# Altium integrated library TI_Logic_Little_Logic.IntLib: 1164 symbols (part 28 of 35)
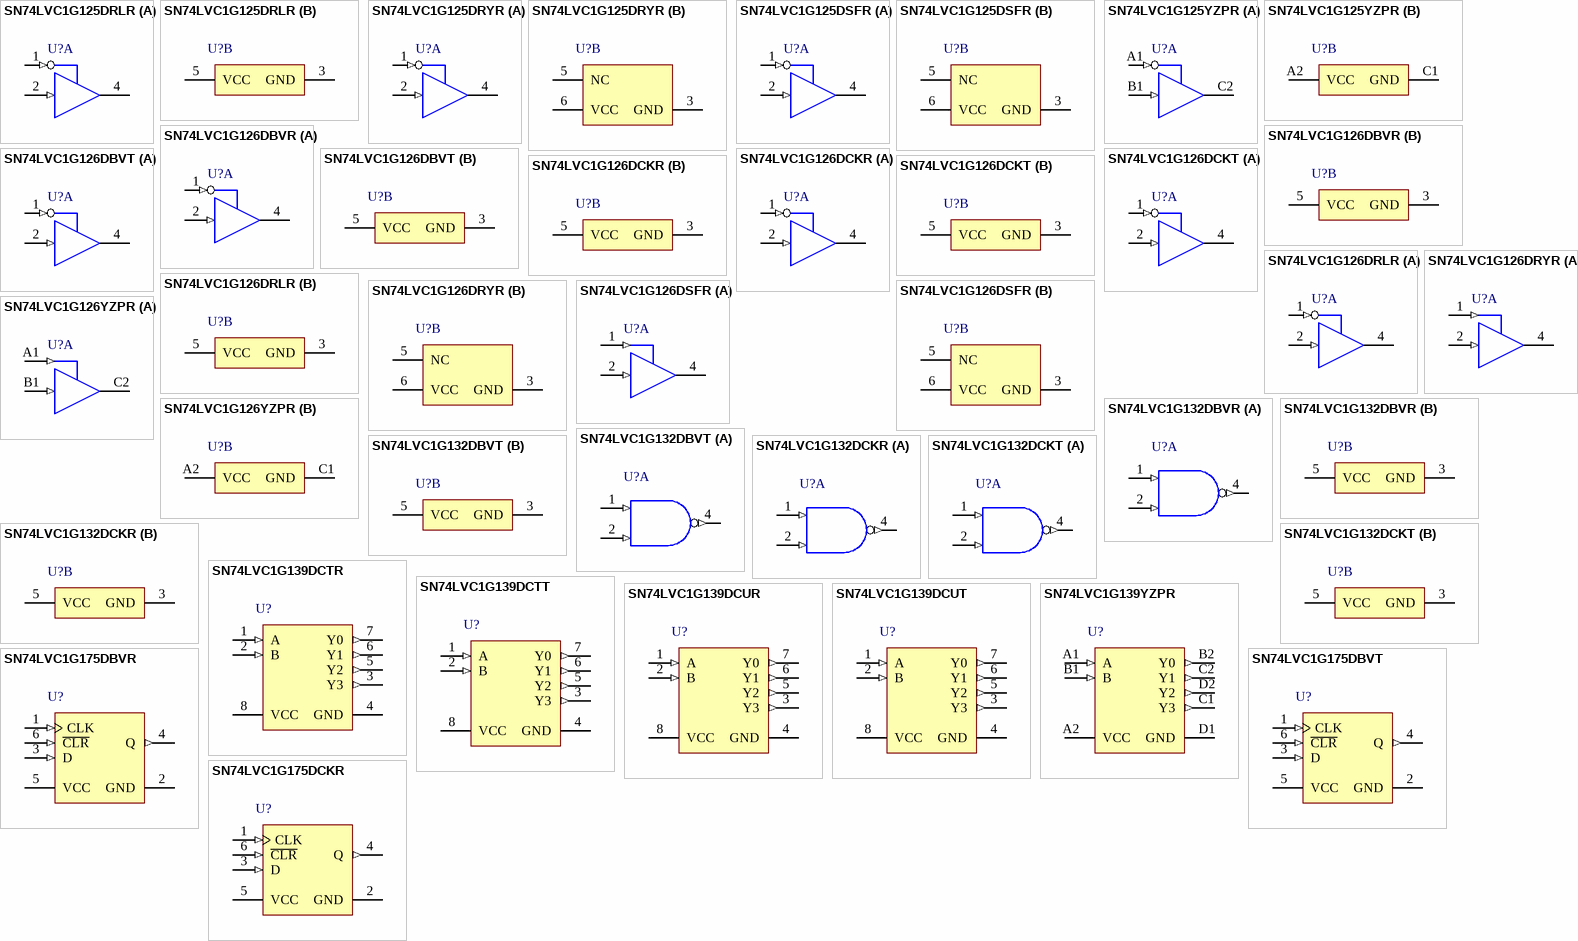
[diagram p87: symbols SN74LVC1G125DRLR to SN74LVC1G175DCKR]

## SN74LVC1G132DCKT
designator U?
Single 2-Input NAND Gate with Schmitt-Trigger Input, DCK0005A, SMALL T&R; Generic Part Number: SN74LVC1G132; Manufacturer: Texas Instruments; PartNumber: SN74LVC1G132DCKT; VCC(Min)(V): 1.65; VCC(Max)(V): 5.5; Output Type: CMOS; ICC @ Nom Voltage(Max)(mA): 0.01; Input Type: CMOS/TTL; Bits(#): 1; F @ Nom Voltage(Max)(Mhz): 150; Rating: Catalog; Technology Family: LVC; Voltage(Nom)(V): 1.8,2.5,3.3,5; Schmitt Trigger: Yes; Output Drive (IOL/IOH)(Max)(mA): 32/-32; tpd @ Nom Voltage(Max)(ns): 16,7.5,6,5; Logic: True; 3-State Output: No; DatasheetVersion: SCES546C; PackageReference: DCK0005A; Supplier 1: Mouser; Supplier Part Number 1: 595-SN74LVC1G132DCKT; Supplier 2: Digi-Key; Supplier Part Number 2: SN74LVC1G132DCKT-ND; Operating Temperature Range(C): -40 to 125; Gate Type: NAND; Sub-Family: NAND Gate; ComponentLink1Description: Manufacturer URL; ComponentLink1URL: http://www.ti.com/; ComponentLink2Description: Datasheet; ComponentLink2URL: http://www.ti.com/lit/ds/symlink/sn74lvc1g132.pdf
footprint DCK0005A_N (SOT23, 5-Leads, Body 2.15x1.4mm, Pitch 0.65mm, IPC Medium Density)
footprint DCK0005A_M (SOT23, 5-Leads, Body 2.15x1.4mm, Pitch 0.65mm, IPC Low Density)
footprint DCK0005A_L (SOT23, 5-Leads, Body 2.15x1.4mm, Pitch 0.65mm, IPC High Density)
part A pins: 1 A (in) "Input A", 2 B (in) "Input B", 4 Y (out) "Output Y"
part B pins: 3 GND (power) "Ground Pin", 5 VCC (power) "Power Pin"

## SN74LVC1G139DCTR
designator U?
2-Line-to-4-Line Decoder, DCT0008A, LARGE T&R; Generic Part Number: SN74LVC1G139; Manufacturer: Texas Instruments; PartNumber: SN74LVC1G139DCTR; VCC(Min)(V): 1.65; VCC(Max)(V): 5.5; Output Type: CMOS; ICC @ Nom Voltage(Max)(mA): 0.01; Input Type: CMOS/TTL; Bits(#): 1; F @ Nom Voltage(Max)(Mhz): 150; Rating: Catalog; Technology Family: LVC; Voltage(Nom)(V): 1.8,2.5,3.3,5; Schmitt Trigger: No; Output Drive (IOL/IOH)(Max)(mA): 32/-32; tpd @ Nom Voltage(Max)(ns): 16.5,7.5,4.9,3.6; Logic: True; Sub-Family: Decoder/Encoder/Multiplexer; DatasheetVersion: SCES602C; PackageReference: DCT0008A; Supplier 1: Mouser; Supplier Part Number 1: 595-SN74LVC1G139DCTR; Supplier 2: Digi-Key; Supplier Part Number 2: 296-18235-2-ND; Supplier 3: Digi-Key; Supplier Part Number 3: 296-18235-1-ND; Supplier 4: Digi-Key; Supplier Part Number 4: 296-18235-6-ND; Operating Temperature Range(C): -40 to 85; Specialty Logic Family: Decoder/Encoder/Multiplexer; 3-State Output: No; ComponentLink1Description: Manufacturer URL; ComponentLink1URL: http://www.ti.com/; ComponentLink2Description: Datasheet; ComponentLink2URL: http://www.ti.com/lit/ds/symlink/sn74lvc1g139.pdf
footprint DCT0008A_N (SOP, 8-Leads, Body 2.9x3.2mm, Pitch 0.65mm, IPC Medium Density)
footprint DCT0008A_M (SOP, 8-Leads, Body 2.9x3.2mm, Pitch 0.65mm, IPC Low Density)
footprint DCT0008A_L (SOP, 8-Leads, Body 2.9x3.2mm, Pitch 0.65mm, IPC High Density)
pins: 1 A (in), 2 B (in), 3 Y3 (out), 4 GND (power), 5 Y2 (out), 6 Y1 (out), 7 Y0 (out), 8 VCC (power)

## SN74LVC1G139DCTT
designator U?
2-Line-to-4-Line Decoder, DCT0008A, SMALL T&R; Generic Part Number: SN74LVC1G139; Manufacturer: Texas Instruments; PartNumber: SN74LVC1G139DCTT; VCC(Min)(V): 1.65; VCC(Max)(V): 5.5; Output Type: CMOS; ICC @ Nom Voltage(Max)(mA): 0.01; Input Type: CMOS/TTL; Bits(#): 1; F @ Nom Voltage(Max)(Mhz): 150; Rating: Catalog; Technology Family: LVC; Voltage(Nom)(V): 1.8,2.5,3.3,5; Schmitt Trigger: No; Output Drive (IOL/IOH)(Max)(mA): 32/-32; tpd @ Nom Voltage(Max)(ns): 16.5,7.5,4.9,3.6; Logic: True; Sub-Family: Decoder/Encoder/Multiplexer; DatasheetVersion: SCES602C; PackageReference: DCT0008A; Supplier 1: Mouser; Supplier Part Number 1: 595-SN74LVC1G139DCTT; Supplier 2: Digi-Key; Supplier Part Number 2: 296-32296-2-ND; Supplier 3: Digi-Key; Supplier Part Number 3: 296-32296-1-ND; Supplier 4: Digi-Key; Supplier Part Number 4: 296-32296-6-ND; Operating Temperature Range(C): -40 to 85; Specialty Logic Family: Decoder/Encoder/Multiplexer; 3-State Output: No; ComponentLink1Description: Manufacturer URL; ComponentLink1URL: http://www.ti.com/; ComponentLink2Description: Datasheet; ComponentLink2URL: http://www.ti.com/lit/ds/symlink/sn74lvc1g139.pdf
footprint DCT0008A_N (SOP, 8-Leads, Body 2.9x3.2mm, Pitch 0.65mm, IPC Medium Density)
footprint DCT0008A_M (SOP, 8-Leads, Body 2.9x3.2mm, Pitch 0.65mm, IPC Low Density)
footprint DCT0008A_L (SOP, 8-Leads, Body 2.9x3.2mm, Pitch 0.65mm, IPC High Density)
pins: 1 A (in), 2 B (in), 3 Y3 (out), 4 GND (power), 5 Y2 (out), 6 Y1 (out), 7 Y0 (out), 8 VCC (power)

## SN74LVC1G139DCUR
designator U?
2-Line-to-4-Line Decoder, DCU0008A, LARGE T&R; Generic Part Number: SN74LVC1G139; Manufacturer: Texas Instruments; PartNumber: SN74LVC1G139DCUR; VCC(Min)(V): 1.65; VCC(Max)(V): 5.5; Output Type: CMOS; ICC @ Nom Voltage(Max)(mA): 0.01; Input Type: CMOS/TTL; Bits(#): 1; F @ Nom Voltage(Max)(Mhz): 150; Rating: Catalog; Technology Family: LVC; Voltage(Nom)(V): 1.8,2.5,3.3,5; Schmitt Trigger: No; Output Drive (IOL/IOH)(Max)(mA): 32/-32; tpd @ Nom Voltage(Max)(ns): 16.5,7.5,4.9,3.6; Logic: True; Sub-Family: Decoder/Encoder/Multiplexer; DatasheetVersion: SCES602C; PackageReference: DCU0008A; Supplier 1: Mouser; Supplier Part Number 1: 595-SN74LVC1G139DCUR; Supplier 2: Digi-Key; Supplier Part Number 2: 296-18203-2-ND; Supplier 3: Digi-Key; Supplier Part Number 3: 296-18203-1-ND; Supplier 4: Digi-Key; Supplier Part Number 4: 296-18203-6-ND; Operating Temperature Range(C): -40 to 85; Specialty Logic Family: Decoder/Encoder/Multiplexer; 3-State Output: No; ComponentLink1Description: Manufacturer URL; ComponentLink1URL: http://www.ti.com/; ComponentLink2Description: Datasheet; ComponentLink2URL: http://www.ti.com/lit/ds/symlink/sn74lvc1g139.pdf
footprint DCU0008A_N (SOP, 8-Leads, Body 2.4x2.1mm, Pitch 0.5mm, IPC Medium Density)
footprint DCU0008A_M (SOP, 8-Leads, Body 2.4x2.1mm, Pitch 0.5mm, IPC Low Density)
footprint DCU0008A_L (SOP, 8-Leads, Body 2.4x2.1mm, Pitch 0.5mm, IPC High Density)
pins: 1 A (in), 2 B (in), 3 Y3 (out), 4 GND (power), 5 Y2 (out), 6 Y1 (out), 7 Y0 (out), 8 VCC (power)

## SN74LVC1G139DCUT
designator U?
2-Line-to-4-Line Decoder, DCU0008A, SMALL T&R; Generic Part Number: SN74LVC1G139; Manufacturer: Texas Instruments; PartNumber: SN74LVC1G139DCUT; VCC(Min)(V): 1.65; VCC(Max)(V): 5.5; Output Type: CMOS; ICC @ Nom Voltage(Max)(mA): 0.01; Input Type: CMOS/TTL; Bits(#): 1; F @ Nom Voltage(Max)(Mhz): 150; Rating: Catalog; Technology Family: LVC; Voltage(Nom)(V): 1.8,2.5,3.3,5; Schmitt Trigger: No; Output Drive (IOL/IOH)(Max)(mA): 32/-32; tpd @ Nom Voltage(Max)(ns): 16.5,7.5,4.9,3.6; Logic: True; Sub-Family: Decoder/Encoder/Multiplexer; DatasheetVersion: SCES602C; PackageReference: DCU0008A; Supplier 1: Mouser; Supplier Part Number 1: 595-SN74LVC1G139DCUT; Supplier 2: Digi-Key; Supplier Part Number 2: 296-32297-2-ND; Supplier 3: Digi-Key; Supplier Part Number 3: 296-32297-1-ND; Supplier 4: Digi-Key; Supplier Part Number 4: 296-32297-6-ND; Operating Temperature Range(C): -40 to 85; Specialty Logic Family: Decoder/Encoder/Multiplexer; 3-State Output: No; ComponentLink1Description: Manufacturer URL; ComponentLink1URL: http://www.ti.com/; ComponentLink2Description: Datasheet; ComponentLink2URL: http://www.ti.com/lit/ds/symlink/sn74lvc1g139.pdf
footprint DCU0008A_N (SOP, 8-Leads, Body 2.4x2.1mm, Pitch 0.5mm, IPC Medium Density)
footprint DCU0008A_M (SOP, 8-Leads, Body 2.4x2.1mm, Pitch 0.5mm, IPC Low Density)
footprint DCU0008A_L (SOP, 8-Leads, Body 2.4x2.1mm, Pitch 0.5mm, IPC High Density)
pins: 1 A (in), 2 B (in), 3 Y3 (out), 4 GND (power), 5 Y2 (out), 6 Y1 (out), 7 Y0 (out), 8 VCC (power)

## SN74LVC1G139YZPR
designator U?
2-Line-to-4-Line Decoder, YZP0008ADAD, LARGE T&R; Generic Part Number: SN74LVC1G139; Manufacturer: Texas Instruments; PartNumber: SN74LVC1G139YZPR; VCC(Min)(V): 1.65; VCC(Max)(V): 5.5; Output Type: CMOS; ICC @ Nom Voltage(Max)(mA): 0.01; Input Type: CMOS/TTL; Bits(#): 1; F @ Nom Voltage(Max)(Mhz): 150; Rating: Catalog; Technology Family: LVC; Voltage(Nom)(V): 1.8,2.5,3.3,5; Schmitt Trigger: No; Output Drive (IOL/IOH)(Max)(mA): 32/-32; tpd @ Nom Voltage(Max)(ns): 16.5,7.5,4.9,3.6; Logic: True; Sub-Family: Decoder/Encoder/Multiplexer; DatasheetVersion: SCES602C; PackageReference: YZP0008ADAD; Supplier 1: Mouser; Supplier Part Number 1: 595-SN74LVC1G139YZPR; Supplier 2: Digi-Key; Supplier Part Number 2: 296-21059-2-ND; Supplier 3: Digi-Key; Supplier Part Number 3: 296-21059-1-ND; Supplier 4: Digi-Key; Supplier Part Number 4: 296-21059-6-ND; Operating Temperature Range(C): -40 to 85; Specialty Logic Family: Decoder/Encoder/Multiplexer; 3-State Output: No; ComponentLink1Description: Manufacturer URL; ComponentLink1URL: http://www.ti.com/; ComponentLink2Description: Datasheet; ComponentLink2URL: http://www.ti.com/lit/ds/symlink/sn74lvc1g139.pdf
footprint YZP0008ADAD (BGA, 8-Balls, Body 1.89x0.89mm, Pitch 0.5mm)
pins: A1 A (in), A2 VCC (power), B1 B (in), B2 Y0 (out), C1 Y3 (out), C2 Y1 (out), D1 GND (power), D2 Y2 (out)

## SN74LVC1G175DBVR
designator U?
Single D-Type Flip-Flop with Asynchronous Clear, DBV0006A, LARGE T&R; Generic Part Number: SN74LVC1G175; Manufacturer: Texas Instruments; PartNumber: SN74LVC1G175DBVR; VCC(Min)(V): 1.65; VCC(Max)(V): 5.5; Output Type: CMOS; ICC @ Nom Voltage(Max)(mA): 0.01; Input Type: CMOS/TTL; Bits(#): 1; F @ Nom Voltage(Max)(Mhz): 150; Rating: Catalog; Technology Family: LVC; Voltage(Nom)(V): 1.8,2.5,3.3,5; Schmitt Trigger: No; Output Drive (IOL/IOH)(Max)(mA): 32/-32; tpd @ Nom Voltage(Max)(ns): 13.4,7.1,5.7,4; Logic: True; DatasheetVersion: SCES560F; PackageReference: DBV0006A; Supplier 1: Mouser; Supplier Part Number 1: 595-SN74LVC1G175DBVR; Supplier 2: Digi-Key; Supplier Part Number 2: 296-17617-2-ND; Supplier 3: Digi-Key; Supplier Part Number 3: 296-17617-1-ND; Supplier 4: Digi-Key; Supplier Part Number 4: 296-17617-6-ND; Operating Temperature Range(C): -40 to 125,-40 to 85; 3-State Output: No; Sub-Family: D-Type Flip-Flop; ComponentLink1Description: Manufacturer URL; ComponentLink1URL: http://www.ti.com/; ComponentLink2Description: Datasheet; ComponentLink2URL: http://www.ti.com/lit/ds/symlink/sn74lvc1g175.pdf
footprint DBV0006A_N (SOT23, 6-Leads, Body 3.05x1.75mm, Pitch 0.95mm, IPC Medium Density)
footprint DBV0006A_M (SOT23, 6-Leads, Body 3.05x1.75mm, Pitch 0.95mm, IPC Low Density)
footprint DBV0006A_L (SOT23, 6-Leads, Body 3.05x1.75mm, Pitch 0.95mm, IPC High Density)
pins: 1 CLK (in), 2 GND (power), 3 D (in), 4 Q (out), 5 VCC (power), 6 ~{CLR} (in)

## SN74LVC1G175DBVT
designator U?
Single D-Type Flip-Flop with Asynchronous Clear, DBV0006A, SMALL T&R; Generic Part Number: SN74LVC1G175; Manufacturer: Texas Instruments; PartNumber: SN74LVC1G175DBVT; VCC(Min)(V): 1.65; VCC(Max)(V): 5.5; Output Type: CMOS; ICC @ Nom Voltage(Max)(mA): 0.01; Input Type: CMOS/TTL; Bits(#): 1; F @ Nom Voltage(Max)(Mhz): 150; Rating: Catalog; Technology Family: LVC; Voltage(Nom)(V): 1.8,2.5,3.3,5; Schmitt Trigger: No; Output Drive (IOL/IOH)(Max)(mA): 32/-32; tpd @ Nom Voltage(Max)(ns): 13.4,7.1,5.7,4; Logic: True; DatasheetVersion: SCES560F; PackageReference: DBV0006A; Supplier 1: Mouser; Supplier Part Number 1: 595-SN74LVC1G175DBVT; Supplier 2: Digi-Key; Supplier Part Number 2: 296-32298-2-ND; Supplier 3: Digi-Key; Supplier Part Number 3: 296-32298-1-ND; Supplier 4: Digi-Key; Supplier Part Number 4: 296-32298-6-ND; Operating Temperature Range(C): -40 to 125,-40 to 85; 3-State Output: No; Sub-Family: D-Type Flip-Flop; ComponentLink1Description: Manufacturer URL; ComponentLink1URL: http://www.ti.com/; ComponentLink2Description: Datasheet; ComponentLink2URL: http://www.ti.com/lit/ds/symlink/sn74lvc1g175.pdf
footprint DBV0006A_N (SOT23, 6-Leads, Body 3.05x1.75mm, Pitch 0.95mm, IPC Medium Density)
footprint DBV0006A_M (SOT23, 6-Leads, Body 3.05x1.75mm, Pitch 0.95mm, IPC Low Density)
footprint DBV0006A_L (SOT23, 6-Leads, Body 3.05x1.75mm, Pitch 0.95mm, IPC High Density)
pins: 1 CLK (in), 2 GND (power), 3 D (in), 4 Q (out), 5 VCC (power), 6 ~{CLR} (in)

## SN74LVC1G175DCKR
designator U?
Single D-Type Flip-Flop with Asynchronous Clear, DCK0006A, LARGE T&R; Generic Part Number: SN74LVC1G175; Manufacturer: Texas Instruments; PartNumber: SN74LVC1G175DCKR; VCC(Min)(V): 1.65; VCC(Max)(V): 5.5; Output Type: CMOS; ICC @ Nom Voltage(Max)(mA): 0.01; Input Type: CMOS/TTL; Bits(#): 1; F @ Nom Voltage(Max)(Mhz): 150; Rating: Catalog; Technology Family: LVC; Voltage(Nom)(V): 1.8,2.5,3.3,5; Schmitt Trigger: No; Output Drive (IOL/IOH)(Max)(mA): 32/-32; tpd @ Nom Voltage(Max)(ns): 13.4,7.1,5.7,4; Logic: True; DatasheetVersion: SCES560F; PackageReference: DCK0006A; Supplier 1: Mouser; Supplier Part Number 1: 595-SN74LVC1G175DCKR; Supplier 2: Digi-Key; Supplier Part Number 2: 296-16998-2-ND; Supplier 3: Digi-Key; Supplier Part Number 3: 296-16998-1-ND; Supplier 4: Digi-Key; Supplier Part Number 4: 296-16998-6-ND; Operating Temperature Range(C): -40 to 125,-40 to 85; 3-State Output: No; Sub-Family: D-Type Flip-Flop; ComponentLink1Description: Manufacturer URL; ComponentLink1URL: http://www.ti.com/; ComponentLink2Description: Datasheet; ComponentLink2URL: http://www.ti.com/lit/ds/symlink/sn74lvc1g175.pdf
footprint DCK0006A_N (SOT23, 6-Leads, Body 2.15x1.4mm, Pitch 0.65mm, IPC Medium Density)
footprint DCK0006A_M (SOT23, 6-Leads, Body 2.15x1.4mm, Pitch 0.65mm, IPC Low Density)
footprint DCK0006A_L (SOT23, 6-Leads, Body 2.15x1.4mm, Pitch 0.65mm, IPC High Density)
pins: 1 CLK (in), 2 GND (power), 3 D (in), 4 Q (out), 5 VCC (power), 6 ~{CLR} (in)

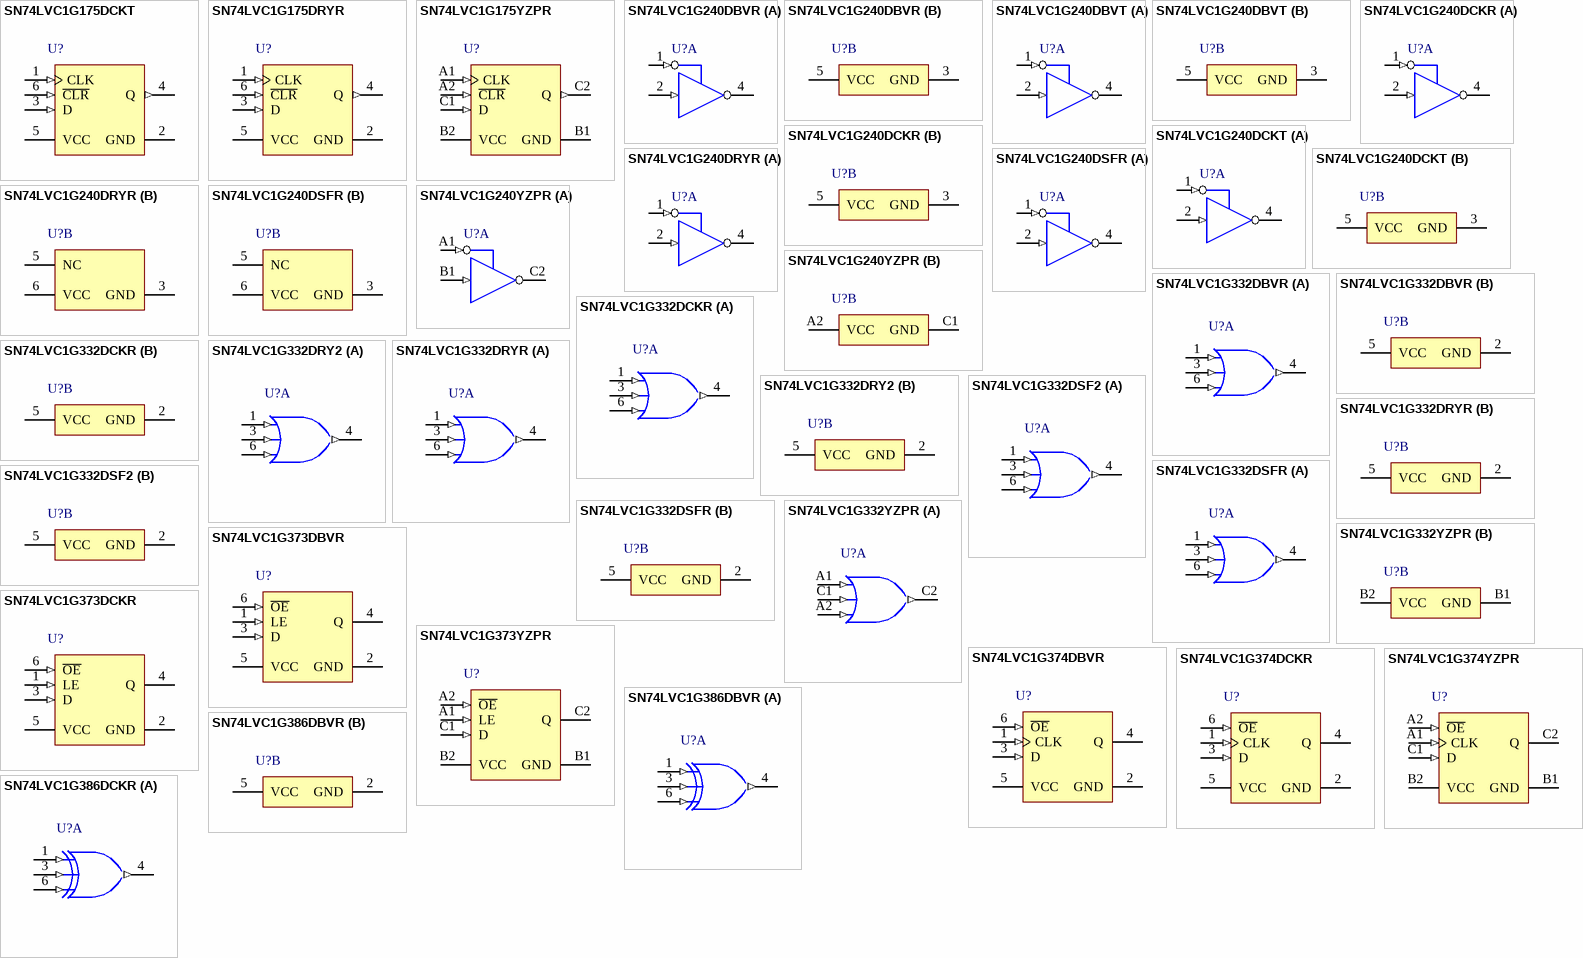
[diagram p45: symbols SN74LVC1G175DCKT to SN74LVC1G386DCKR]

## SN74LVC1G175DCKT
designator U?
Single D-Type Flip-Flop with Asynchronous Clear, DCK0006A, SMALL T&R; Generic Part Number: SN74LVC1G175; Manufacturer: Texas Instruments; PartNumber: SN74LVC1G175DCKT; VCC(Min)(V): 1.65; VCC(Max)(V): 5.5; Output Type: CMOS; ICC @ Nom Voltage(Max)(mA): 0.01; Input Type: CMOS/TTL; Bits(#): 1; F @ Nom Voltage(Max)(Mhz): 150; Rating: Catalog; Technology Family: LVC; Voltage(Nom)(V): 1.8,2.5,3.3,5; Schmitt Trigger: No; Output Drive (IOL/IOH)(Max)(mA): 32/-32; tpd @ Nom Voltage(Max)(ns): 13.4,7.1,5.7,4; Logic: True; DatasheetVersion: SCES560F; PackageReference: DCK0006A; Supplier 1: Mouser; Supplier Part Number 1: 595-SN74LVC1G175DCKT; Supplier 2: Digi-Key; Supplier Part Number 2: 296-32299-2-ND; Supplier 3: Digi-Key; Supplier Part Number 3: 296-32299-1-ND; Supplier 4: Digi-Key; Supplier Part Number 4: 296-32299-6-ND; Operating Temperature Range(C): -40 to 125,-40 to 85; 3-State Output: No; Sub-Family: D-Type Flip-Flop; ComponentLink1Description: Manufacturer URL; ComponentLink1URL: http://www.ti.com/; ComponentLink2Description: Datasheet; ComponentLink2URL: http://www.ti.com/lit/ds/symlink/sn74lvc1g175.pdf
footprint DCK0006A_N (SOT23, 6-Leads, Body 2.15x1.4mm, Pitch 0.65mm, IPC Medium Density)
footprint DCK0006A_M (SOT23, 6-Leads, Body 2.15x1.4mm, Pitch 0.65mm, IPC Low Density)
footprint DCK0006A_L (SOT23, 6-Leads, Body 2.15x1.4mm, Pitch 0.65mm, IPC High Density)
pins: 1 CLK (in), 2 GND (power), 3 D (in), 4 Q (out), 5 VCC (power), 6 ~{CLR} (in)

## SN74LVC1G175DRYR
designator U?
Single D-Type Flip-Flop with Asynchronous Clear, DRY0006A, LARGE T&R; Generic Part Number: SN74LVC1G175; Manufacturer: Texas Instruments; PartNumber: SN74LVC1G175DRYR; VCC(Min)(V): 1.65; VCC(Max)(V): 5.5; Output Type: CMOS; ICC @ Nom Voltage(Max)(mA): 0.01; Input Type: CMOS/TTL; Bits(#): 1; F @ Nom Voltage(Max)(Mhz): 150; Rating: Catalog; Technology Family: LVC; Voltage(Nom)(V): 1.8,2.5,3.3,5; Schmitt Trigger: No; Output Drive (IOL/IOH)(Max)(mA): 32/-32; tpd @ Nom Voltage(Max)(ns): 13.4,7.1,5.7,4; Logic: True; DatasheetVersion: SCES560F; PackageReference: DRY0006A; Supplier 1: Mouser; Supplier Part Number 1: 595-SN74LVC1G175DRYR; Supplier 2: Digi-Key; Supplier Part Number 2: 296-24753-2-ND; Supplier 3: Digi-Key; Supplier Part Number 3: 296-24753-1-ND; Supplier 4: Digi-Key; Supplier Part Number 4: 296-24753-6-ND; Operating Temperature Range(C): -40 to 125,-40 to 85; 3-State Output: No; Sub-Family: D-Type Flip-Flop; ComponentLink1Description: Manufacturer URL; ComponentLink1URL: http://www.ti.com/; ComponentLink2Description: Datasheet; ComponentLink2URL: http://www.ti.com/lit/ds/symlink/sn74lvc1g175.pdf
footprint DRY0006A_V (SON, 6-Leads, Body 1.45x1mm, Pitch 0.5mm)
pins: 1 CLK (in), 2 GND (power), 3 D (in), 4 Q (out), 5 VCC (power), 6 ~{CLR} (in)

## SN74LVC1G175YZPR
designator U?
Single D-Type Flip-Flop with Asynchronous Clear, YZP0006ADAD, LARGE T&R; Generic Part Number: SN74LVC1G175; Manufacturer: Texas Instruments; PartNumber: SN74LVC1G175YZPR; VCC(Min)(V): 1.65; VCC(Max)(V): 5.5; Output Type: CMOS; ICC @ Nom Voltage(Max)(mA): 0.01; Input Type: CMOS/TTL; Bits(#): 1; F @ Nom Voltage(Max)(Mhz): 150; Rating: Catalog; Technology Family: LVC; Voltage(Nom)(V): 1.8,2.5,3.3,5; Schmitt Trigger: No; Output Drive (IOL/IOH)(Max)(mA): 32/-32; tpd @ Nom Voltage(Max)(ns): 13.4,7.1,5.7,4; Logic: True; DatasheetVersion: SCES560F; PackageReference: YZP0006ADAD; Supplier 1: Mouser; Supplier Part Number 1: 595-SN74LVC1G175YZPR; Supplier 2: Digi-Key; Supplier Part Number 2: 296-17373-2-ND; Supplier 3: Digi-Key; Supplier Part Number 3: 296-17373-1-ND; Supplier 4: Digi-Key; Supplier Part Number 4: 296-17373-6-ND; Operating Temperature Range(C): -40 to 125,-40 to 85; 3-State Output: No; Sub-Family: D-Type Flip-Flop; ComponentLink1Description: Manufacturer URL; ComponentLink1URL: http://www.ti.com/; ComponentLink2Description: Datasheet; ComponentLink2URL: http://www.ti.com/lit/ds/symlink/sn74lvc1g175.pdf
footprint YZP0006ADAD (BGA, 6-Balls, Body 1.39x0.89mm, Pitch 0.5mm)
pins: A1 CLK (in), A2 ~{CLR} (in), B1 GND (power), B2 VCC (power), C1 D (in), C2 Q (out)

## SN74LVC1G240DBVR
designator U?
Single Inverting Buffer/Driver With 3-State Outputs, DBV0005A, LARGE T&R; Generic Part Number: SN74LVC1G240; Manufacturer: Texas Instruments; PartNumber: SN74LVC1G240DBVR; VCC(Min)(V): 1.65; VCC(Max)(V): 5.5; Output Type: CMOS; ICC @ Nom Voltage(Max)(mA): 0.01; Input Type: CMOS/TTL; Bits(#): 1; F @ Nom Voltage(Max)(Mhz): 150; Rating: Catalog; Technology Family: LVC; Voltage(Nom)(V): 1.8,2.5,3.3,5; Schmitt Trigger: No; Output Drive (IOL/IOH)(Max)(mA): 32/-32; tpd @ Nom Voltage(Max)(ns): 6.9,4.6,3.7,3.4; 3-State Output: Yes; DatasheetVersion: SCES305L; PackageReference: DBV0005A; Supplier 1: Mouser; Supplier Part Number 1: 595-SN74LVC1G240DBVR; Supplier 2: Digi-Key; Supplier Part Number 2: 296-11609-2-ND; Supplier 3: Digi-Key; Supplier Part Number 3: 296-11609-1-ND; Supplier 4: Digi-Key; Supplier Part Number 4: 296-11609-6-ND; Operating Temperature Range(C): -40 to 125,-40 to 85; Logic: Inverting; Sub-Family: Inverting Buffer/Driver; ComponentLink1Description: Manufacturer URL; ComponentLink1URL: http://www.ti.com/; ComponentLink2Description: Datasheet; ComponentLink2URL: http://www.ti.com/lit/ds/symlink/sn74lvc1g240.pdf
footprint DBV0005A_N (SOT23, 5-Leads, Body 3.05x1.75mm, Pitch 0.95mm, IPC Medium Density)
footprint DBV0005A_M (SOT23, 5-Leads, Body 3.05x1.75mm, Pitch 0.95mm, IPC Low Density)
footprint DBV0005A_L (SOT23, 5-Leads, Body 3.05x1.75mm, Pitch 0.95mm, IPC High Density)
part A pins: 1 ~{OE} (in), 2 A (in), 4 Y (hiz)
part B pins: 3 GND (power), 5 VCC (power)

## SN74LVC1G240DBVT
designator U?
Single Inverting Buffer/Driver With 3-State Outputs, DBV0005A, SMALL T&R; Generic Part Number: SN74LVC1G240; Manufacturer: Texas Instruments; PartNumber: SN74LVC1G240DBVT; VCC(Min)(V): 1.65; VCC(Max)(V): 5.5; Output Type: CMOS; ICC @ Nom Voltage(Max)(mA): 0.01; Input Type: CMOS/TTL; Bits(#): 1; F @ Nom Voltage(Max)(Mhz): 150; Rating: Catalog; Technology Family: LVC; Voltage(Nom)(V): 1.8,2.5,3.3,5; Schmitt Trigger: No; Output Drive (IOL/IOH)(Max)(mA): 32/-32; tpd @ Nom Voltage(Max)(ns): 6.9,4.6,3.7,3.4; 3-State Output: Yes; DatasheetVersion: SCES305L; PackageReference: DBV0005A; Supplier 1: Mouser; Supplier Part Number 1: 595-SN74LVC1G240DBVT; Supplier 2: Digi-Key; Supplier Part Number 2: 296-32301-2-ND; Supplier 3: Digi-Key; Supplier Part Number 3: 296-32301-1-ND; Supplier 4: Digi-Key; Supplier Part Number 4: 296-32301-6-ND; Operating Temperature Range(C): -40 to 125,-40 to 85; Logic: Inverting; Sub-Family: Inverting Buffer/Driver; ComponentLink1Description: Manufacturer URL; ComponentLink1URL: http://www.ti.com/; ComponentLink2Description: Datasheet; ComponentLink2URL: http://www.ti.com/lit/ds/symlink/sn74lvc1g240.pdf
footprint DBV0005A_N (SOT23, 5-Leads, Body 3.05x1.75mm, Pitch 0.95mm, IPC Medium Density)
footprint DBV0005A_M (SOT23, 5-Leads, Body 3.05x1.75mm, Pitch 0.95mm, IPC Low Density)
footprint DBV0005A_L (SOT23, 5-Leads, Body 3.05x1.75mm, Pitch 0.95mm, IPC High Density)
part A pins: 1 ~{OE} (in), 2 A (in), 4 Y (hiz)
part B pins: 3 GND (power), 5 VCC (power)

## SN74LVC1G240DCKR
designator U?
Single Inverting Buffer/Driver With 3-State Outputs, DCK0005A, LARGE T&R; Generic Part Number: SN74LVC1G240; Manufacturer: Texas Instruments; PartNumber: SN74LVC1G240DCKR; VCC(Min)(V): 1.65; VCC(Max)(V): 5.5; Output Type: CMOS; ICC @ Nom Voltage(Max)(mA): 0.01; Input Type: CMOS/TTL; Bits(#): 1; F @ Nom Voltage(Max)(Mhz): 150; Rating: Catalog; Technology Family: LVC; Voltage(Nom)(V): 1.8,2.5,3.3,5; Schmitt Trigger: No; Output Drive (IOL/IOH)(Max)(mA): 32/-32; tpd @ Nom Voltage(Max)(ns): 6.9,4.6,3.7,3.4; 3-State Output: Yes; DatasheetVersion: SCES305L; PackageReference: DCK0005A; Supplier 1: Mouser; Supplier Part Number 1: 595-SN74LVC1G240DCKR; Supplier 2: Digi-Key; Supplier Part Number 2: 296-11610-2-ND; Supplier 3: Digi-Key; Supplier Part Number 3: 296-11610-1-ND; Supplier 4: Digi-Key; Supplier Part Number 4: 296-11610-6-ND; Operating Temperature Range(C): -40 to 125,-40 to 85; Logic: Inverting; Sub-Family: Inverting Buffer/Driver; ComponentLink1Description: Manufacturer URL; ComponentLink1URL: http://www.ti.com/; ComponentLink2Description: Datasheet; ComponentLink2URL: http://www.ti.com/lit/ds/symlink/sn74lvc1g240.pdf
footprint DCK0005A_N (SOT23, 5-Leads, Body 2.15x1.4mm, Pitch 0.65mm, IPC Medium Density)
footprint DCK0005A_M (SOT23, 5-Leads, Body 2.15x1.4mm, Pitch 0.65mm, IPC Low Density)
footprint DCK0005A_L (SOT23, 5-Leads, Body 2.15x1.4mm, Pitch 0.65mm, IPC High Density)
part A pins: 1 ~{OE} (in), 2 A (in), 4 Y (hiz)
part B pins: 3 GND (power), 5 VCC (power)

## SN74LVC1G240DCKT
designator U?
Single Inverting Buffer/Driver With 3-State Outputs, DCK0005A, SMALL T&R; Generic Part Number: SN74LVC1G240; Manufacturer: Texas Instruments; PartNumber: SN74LVC1G240DCKT; VCC(Min)(V): 1.65; VCC(Max)(V): 5.5; Output Type: CMOS; ICC @ Nom Voltage(Max)(mA): 0.01; Input Type: CMOS/TTL; Bits(#): 1; F @ Nom Voltage(Max)(Mhz): 150; Rating: Catalog; Technology Family: LVC; Voltage(Nom)(V): 1.8,2.5,3.3,5; Schmitt Trigger: No; Output Drive (IOL/IOH)(Max)(mA): 32/-32; tpd @ Nom Voltage(Max)(ns): 6.9,4.6,3.7,3.4; 3-State Output: Yes; DatasheetVersion: SCES305L; PackageReference: DCK0005A; Supplier 1: Mouser; Supplier Part Number 1: 595-SN74LVC1G240DCKT; Supplier 2: Digi-Key; Supplier Part Number 2: 296-32302-2-ND; Supplier 3: Digi-Key; Supplier Part Number 3: 296-32302-1-ND; Supplier 4: Digi-Key; Supplier Part Number 4: 296-32302-6-ND; Operating Temperature Range(C): -40 to 125,-40 to 85; Logic: Inverting; Sub-Family: Inverting Buffer/Driver; ComponentLink1Description: Manufacturer URL; ComponentLink1URL: http://www.ti.com/; ComponentLink2Description: Datasheet; ComponentLink2URL: http://www.ti.com/lit/ds/symlink/sn74lvc1g240.pdf
footprint DCK0005A_N (SOT23, 5-Leads, Body 2.15x1.4mm, Pitch 0.65mm, IPC Medium Density)
footprint DCK0005A_M (SOT23, 5-Leads, Body 2.15x1.4mm, Pitch 0.65mm, IPC Low Density)
footprint DCK0005A_L (SOT23, 5-Leads, Body 2.15x1.4mm, Pitch 0.65mm, IPC High Density)
part A pins: 1 ~{OE} (in), 2 A (in), 4 Y (hiz)
part B pins: 3 GND (power), 5 VCC (power)

## SN74LVC1G240DRYR
designator U?
Single Inverting Buffer/Driver With 3-State Outputs, DRY0006A, LARGE T&R; Generic Part Number: SN74LVC1G240; Manufacturer: Texas Instruments; PartNumber: SN74LVC1G240DRYR; VCC(Min)(V): 1.65; VCC(Max)(V): 5.5; Output Type: CMOS; ICC @ Nom Voltage(Max)(mA): 0.01; Input Type: CMOS/TTL; Bits(#): 1; F @ Nom Voltage(Max)(Mhz): 150; Rating: Catalog; Technology Family: LVC; Voltage(Nom)(V): 1.8,2.5,3.3,5; Schmitt Trigger: No; Output Drive (IOL/IOH)(Max)(mA): 32/-32; tpd @ Nom Voltage(Max)(ns): 6.9,4.6,3.7,3.4; 3-State Output: Yes; DatasheetVersion: SCES305L; PackageReference: DRY0006A; Supplier 1: Mouser; Supplier Part Number 1: 595-SN74LVC1G240DRYR; Supplier 2: Digi-Key; Supplier Part Number 2: SN74LVC1G240DRYR-ND; Operating Temperature Range(C): -40 to 125,-40 to 85; Logic: Inverting; Sub-Family: Inverting Buffer/Driver; ComponentLink1Description: Manufacturer URL; ComponentLink1URL: http://www.ti.com/; ComponentLink2Description: Datasheet; ComponentLink2URL: http://www.ti.com/lit/ds/symlink/sn74lvc1g240.pdf
footprint DRY0006A_V (SON, 6-Leads, Body 1.45x1mm, Pitch 0.5mm)
part A pins: 1 ~{OE} (in), 2 A (in), 4 Y (hiz)
part B pins: 3 GND (power), 5 NC, 6 VCC (power)

## SN74LVC1G240DSFR
designator U?
Single Inverting Buffer/Driver With 3-State Outputs, DSF0006A, LARGE T&R; Generic Part Number: SN74LVC1G240; Manufacturer: Texas Instruments; PartNumber: SN74LVC1G240DSFR; VCC(Min)(V): 1.65; VCC(Max)(V): 5.5; Output Type: CMOS; ICC @ Nom Voltage(Max)(mA): 0.01; Input Type: CMOS/TTL; Bits(#): 1; F @ Nom Voltage(Max)(Mhz): 150; Rating: Catalog; Technology Family: LVC; Voltage(Nom)(V): 1.8,2.5,3.3,5; Schmitt Trigger: No; Output Drive (IOL/IOH)(Max)(mA): 32/-32; tpd @ Nom Voltage(Max)(ns): 6.9,4.6,3.7,3.4; 3-State Output: Yes; DatasheetVersion: SCES305L; PackageReference: DSF0006A; Supplier 1: Mouser; Supplier Part Number 1: 595-SN74LVC1G240DSFR; Supplier 2: Digi-Key; Supplier Part Number 2: 296-36725-2-ND; Supplier 3: Digi-Key; Supplier Part Number 3: 296-36725-1-ND; Supplier 4: Digi-Key; Supplier Part Number 4: 296-36725-6-ND; Operating Temperature Range(C): -40 to 125,-40 to 85; Logic: Inverting; Sub-Family: Inverting Buffer/Driver; ComponentLink1Description: Manufacturer URL; ComponentLink1URL: http://www.ti.com/; ComponentLink2Description: Datasheet; ComponentLink2URL: http://www.ti.com/lit/ds/symlink/sn74lvc1g240.pdf
footprint DSF0006A_V (SON, 6-Leads, Body 1x1mm, Pitch 0.35mm, TI Recommend)
part A pins: 1 ~{OE} (in), 2 A (in), 4 Y (hiz)
part B pins: 3 GND (power), 5 NC, 6 VCC (power)

## SN74LVC1G240YZPR
designator U?
Single Inverting Buffer/Driver With 3-State Outputs, YZP0005ADAD, LARGE T&R; Generic Part Number: SN74LVC1G240; Manufacturer: Texas Instruments; PartNumber: SN74LVC1G240YZPR; VCC(Min)(V): 1.65; VCC(Max)(V): 5.5; Output Type: CMOS; ICC @ Nom Voltage(Max)(mA): 0.01; Input Type: CMOS/TTL; Bits(#): 1; F @ Nom Voltage(Max)(Mhz): 150; Rating: Catalog; Technology Family: LVC; Voltage(Nom)(V): 1.8,2.5,3.3,5; Schmitt Trigger: No; Output Drive (IOL/IOH)(Max)(mA): 32/-32; tpd @ Nom Voltage(Max)(ns): 6.9,4.6,3.7,3.4; 3-State Output: Yes; DatasheetVersion: SCES305L; PackageReference: YZP0005ADAD; Supplier 1: Mouser; Supplier Part Number 1: 595-SN74LVC1G240YZPR; Supplier 2: Digi-Key; Supplier Part Number 2: 296-15874-2-ND; Supplier 3: Digi-Key; Supplier Part Number 3: 296-15874-1-ND; Operating Temperature Range(C): -40 to 125,-40 to 85; Logic: Inverting; Sub-Family: Inverting Buffer/Driver; ComponentLink1Description: Manufacturer URL; ComponentLink1URL: http://www.ti.com/; ComponentLink2Description: Datasheet; ComponentLink2URL: http://www.ti.com/lit/ds/symlink/sn74lvc1g240.pdf
footprint YZP0005ADAD (BGA, 5-Balls, Body 1.39x0.89mm, Pitch 0.5mm)
part A pins: A1 ~{OE} (in), B1 A (in), C2 Y (hiz)
part B pins: A2 VCC (power), C1 GND (power)

## SN74LVC1G332DBVR
designator U?
Single 3-Input Positive-OR Gate, DBV0006A, LARGE T&R; Generic Part Number: SN74LVC1G332; Manufacturer: Texas Instruments; PartNumber: SN74LVC1G332DBVR; VCC(Min)(V): 1.65; VCC(Max)(V): 5.5; Output Type: CMOS; ICC @ Nom Voltage(Max)(mA): 0.01; Input Type: CMOS/TTL; Bits(#): 1; F @ Nom Voltage(Max)(Mhz): 150; Rating: Catalog; Technology Family: LVC; Voltage(Nom)(V): 1.8,2.5,3.3,5; Schmitt Trigger: No; Output Drive (IOL/IOH)(Max)(mA): 32/-32; tpd @ Nom Voltage(Max)(ns): 17.2,6.2,4.8,3.5; Logic: True; Gate Type: OR; Sub-Family: OR Gate; DatasheetVersion: SCES489E; PackageReference: DBV0006A; Supplier 1: Mouser; Supplier Part Number 1: 595-SN74LVC1G332DBVR; Supplier 2: Digi-Key; Supplier Part Number 2: 296-18587-2-ND; Supplier 3: Digi-Key; Supplier Part Number 3: 296-18587-1-ND; Supplier 4: Digi-Key; Supplier Part Number 4: 296-18587-6-ND; Operating Temperature Range(C): -40 to 125,-40 to 85; 3-State Output: No; ComponentLink1Description: Manufacturer URL; ComponentLink1URL: http://www.ti.com/; ComponentLink2Description: Datasheet; ComponentLink2URL: http://www.ti.com/lit/ds/symlink/sn74lvc1g332.pdf
footprint DBV0006A_N (SOT23, 6-Leads, Body 3.05x1.75mm, Pitch 0.95mm, IPC Medium Density)
footprint DBV0006A_M (SOT23, 6-Leads, Body 3.05x1.75mm, Pitch 0.95mm, IPC Low Density)
footprint DBV0006A_L (SOT23, 6-Leads, Body 3.05x1.75mm, Pitch 0.95mm, IPC High Density)
part A pins: 1 A (in), 3 B (in), 4 Y (out), 6 C (in)
part B pins: 2 GND (power), 5 VCC (power)

## SN74LVC1G332DCKR
designator U?
Single 3-Input Positive-OR Gate, DCK0006A, LARGE T&R; Generic Part Number: SN74LVC1G332; Manufacturer: Texas Instruments; PartNumber: SN74LVC1G332DCKR; VCC(Min)(V): 1.65; VCC(Max)(V): 5.5; Output Type: CMOS; ICC @ Nom Voltage(Max)(mA): 0.01; Input Type: CMOS/TTL; Bits(#): 1; F @ Nom Voltage(Max)(Mhz): 150; Rating: Catalog; Technology Family: LVC; Voltage(Nom)(V): 1.8,2.5,3.3,5; Schmitt Trigger: No; Output Drive (IOL/IOH)(Max)(mA): 32/-32; tpd @ Nom Voltage(Max)(ns): 17.2,6.2,4.8,3.5; Logic: True; Gate Type: OR; Sub-Family: OR Gate; DatasheetVersion: SCES489E; PackageReference: DCK0006A; Supplier 1: Mouser; Supplier Part Number 1: 595-SN74LVC1G332DCKR; Supplier 2: Digi-Key; Supplier Part Number 2: 296-15943-2-ND; Supplier 3: Digi-Key; Supplier Part Number 3: 296-15943-1-ND; Supplier 4: Digi-Key; Supplier Part Number 4: 296-15943-6-ND; Operating Temperature Range(C): -40 to 125,-40 to 85; 3-State Output: No; ComponentLink1Description: Manufacturer URL; ComponentLink1URL: http://www.ti.com/; ComponentLink2Description: Datasheet; ComponentLink2URL: http://www.ti.com/lit/ds/symlink/sn74lvc1g332.pdf
footprint DCK0006A_N (SOT23, 6-Leads, Body 2.15x1.4mm, Pitch 0.65mm, IPC Medium Density)
footprint DCK0006A_M (SOT23, 6-Leads, Body 2.15x1.4mm, Pitch 0.65mm, IPC Low Density)
footprint DCK0006A_L (SOT23, 6-Leads, Body 2.15x1.4mm, Pitch 0.65mm, IPC High Density)
part A pins: 1 A (in), 3 B (in), 4 Y (out), 6 C (in)
part B pins: 2 GND (power), 5 VCC (power)

## SN74LVC1G332DRY2
designator U?
Single 3-Input Positive-OR Gate, DRY0006A, LARGE T&R; Generic Part Number: SN74LVC1G332; Manufacturer: Texas Instruments; PartNumber: SN74LVC1G332DRY2; VCC(Min)(V): 1.65; VCC(Max)(V): 5.5; Output Type: CMOS; ICC @ Nom Voltage(Max)(mA): 0.01; Input Type: CMOS/TTL; Bits(#): 1; F @ Nom Voltage(Max)(Mhz): 150; Rating: Catalog; Technology Family: LVC; Voltage(Nom)(V): 1.8,2.5,3.3,5; Schmitt Trigger: No; Output Drive (IOL/IOH)(Max)(mA): 32/-32; tpd @ Nom Voltage(Max)(ns): 17.2,6.2,4.8,3.5; Logic: True; Gate Type: OR; Sub-Family: OR Gate; DatasheetVersion: SCES489E; PackageReference: DRY0006A; Supplier 1: Mouser; Supplier Part Number 1: 595-SN74LVC1G332DRY2; Supplier 2: Digi-Key; Supplier Part Number 2: SN74LVC1G332DRY2-ND; Operating Temperature Range(C): -40 to 125,-40 to 85; 3-State Output: No; ComponentLink1Description: Manufacturer URL; ComponentLink1URL: http://www.ti.com/; ComponentLink2Description: Datasheet; ComponentLink2URL: http://www.ti.com/lit/ds/symlink/sn74lvc1g332.pdf
footprint DRY0006A_V (SON, 6-Leads, Body 1.45x1mm, Pitch 0.5mm)
part A pins: 1 A (in), 3 B (in), 4 Y (out), 6 C (in)
part B pins: 2 GND (power), 5 VCC (power)

## SN74LVC1G332DRYR
designator U?
Single 3-Input Positive-OR Gate, DRY0006A, LARGE T&R; Generic Part Number: SN74LVC1G332; Manufacturer: Texas Instruments; PartNumber: SN74LVC1G332DRYR; VCC(Min)(V): 1.65; VCC(Max)(V): 5.5; Output Type: CMOS; ICC @ Nom Voltage(Max)(mA): 0.01; Input Type: CMOS/TTL; Bits(#): 1; F @ Nom Voltage(Max)(Mhz): 150; Rating: Catalog; Technology Family: LVC; Voltage(Nom)(V): 1.8,2.5,3.3,5; Schmitt Trigger: No; Output Drive (IOL/IOH)(Max)(mA): 32/-32; tpd @ Nom Voltage(Max)(ns): 17.2,6.2,4.8,3.5; Logic: True; Gate Type: OR; Sub-Family: OR Gate; DatasheetVersion: SCES489E; PackageReference: DRY0006A; Supplier 1: Mouser; Supplier Part Number 1: 595-SN74LVC1G332DRYR; Supplier 2: Digi-Key; Supplier Part Number 2: 296-30124-2-ND; Supplier 3: Digi-Key; Supplier Part Number 3: 296-30124-1-ND; Supplier 4: Digi-Key; Supplier Part Number 4: 296-30124-6-ND; Operating Temperature Range(C): -40 to 125,-40 to 85; 3-State Output: No; ComponentLink1Description: Manufacturer URL; ComponentLink1URL: http://www.ti.com/; ComponentLink2Description: Datasheet; ComponentLink2URL: http://www.ti.com/lit/ds/symlink/sn74lvc1g332.pdf
footprint DRY0006A_V (SON, 6-Leads, Body 1.45x1mm, Pitch 0.5mm)
part A pins: 1 A (in), 3 B (in), 4 Y (out), 6 C (in)
part B pins: 2 GND (power), 5 VCC (power)

## SN74LVC1G332DSF2
designator U?
Single 3-Input Positive-OR Gate, DSF0006A, LARGE T&R; Generic Part Number: SN74LVC1G332; Manufacturer: Texas Instruments; PartNumber: SN74LVC1G332DSF2; VCC(Min)(V): 1.65; VCC(Max)(V): 5.5; Output Type: CMOS; ICC @ Nom Voltage(Max)(mA): 0.01; Input Type: CMOS/TTL; Bits(#): 1; F @ Nom Voltage(Max)(Mhz): 150; Rating: Catalog; Technology Family: LVC; Voltage(Nom)(V): 1.8,2.5,3.3,5; Schmitt Trigger: No; Output Drive (IOL/IOH)(Max)(mA): 32/-32; tpd @ Nom Voltage(Max)(ns): 17.2,6.2,4.8,3.5; Logic: True; Gate Type: OR; Sub-Family: OR Gate; DatasheetVersion: SCES489E; PackageReference: DSF0006A; Supplier 1: Mouser; Supplier Part Number 1: 595-SN74LVC1G332DSF2; Supplier 2: Digi-Key; Supplier Part Number 2: SN74LVC1G332DSF2-ND; Operating Temperature Range(C): -40 to 125,-40 to 85; 3-State Output: No; ComponentLink1Description: Manufacturer URL; ComponentLink1URL: http://www.ti.com/; ComponentLink2Description: Datasheet; ComponentLink2URL: http://www.ti.com/lit/ds/symlink/sn74lvc1g332.pdf
footprint DSF0006A_V (SON, 6-Leads, Body 1x1mm, Pitch 0.35mm, TI Recommend)
part A pins: 1 A (in), 3 B (in), 4 Y (out), 6 C (in)
part B pins: 2 GND (power), 5 VCC (power)

## SN74LVC1G332DSFR
designator U?
Single 3-Input Positive-OR Gate, DSF0006A, LARGE T&R; Generic Part Number: SN74LVC1G332; Manufacturer: Texas Instruments; PartNumber: SN74LVC1G332DSFR; VCC(Min)(V): 1.65; VCC(Max)(V): 5.5; Output Type: CMOS; ICC @ Nom Voltage(Max)(mA): 0.01; Input Type: CMOS/TTL; Bits(#): 1; F @ Nom Voltage(Max)(Mhz): 150; Rating: Catalog; Technology Family: LVC; Voltage(Nom)(V): 1.8,2.5,3.3,5; Schmitt Trigger: No; Output Drive (IOL/IOH)(Max)(mA): 32/-32; tpd @ Nom Voltage(Max)(ns): 17.2,6.2,4.8,3.5; Logic: True; Gate Type: OR; Sub-Family: OR Gate; DatasheetVersion: SCES489E; PackageReference: DSF0006A; Supplier 1: Mouser; Supplier Part Number 1: 595-SN74LVC1G332DSFR; Supplier 2: Digi-Key; Supplier Part Number 2: 296-30125-2-ND; Supplier 3: Digi-Key; Supplier Part Number 3: 296-30125-1-ND; Supplier 4: Digi-Key; Supplier Part Number 4: 296-30125-6-ND; Operating Temperature Range(C): -40 to 125,-40 to 85; 3-State Output: No; ComponentLink1Description: Manufacturer URL; ComponentLink1URL: http://www.ti.com/; ComponentLink2Description: Datasheet; ComponentLink2URL: http://www.ti.com/lit/ds/symlink/sn74lvc1g332.pdf
footprint DSF0006A_V (SON, 6-Leads, Body 1x1mm, Pitch 0.35mm, TI Recommend)
part A pins: 1 A (in), 3 B (in), 4 Y (out), 6 C (in)
part B pins: 2 GND (power), 5 VCC (power)

## SN74LVC1G332YZPR
designator U?
Single 3-Input Positive-OR Gate, YZP0006ADAD, LARGE T&R; Generic Part Number: SN74LVC1G332; Manufacturer: Texas Instruments; PartNumber: SN74LVC1G332YZPR; VCC(Min)(V): 1.65; VCC(Max)(V): 5.5; Output Type: CMOS; ICC @ Nom Voltage(Max)(mA): 0.01; Input Type: CMOS/TTL; Bits(#): 1; F @ Nom Voltage(Max)(Mhz): 150; Rating: Catalog; Technology Family: LVC; Voltage(Nom)(V): 1.8,2.5,3.3,5; Schmitt Trigger: No; Output Drive (IOL/IOH)(Max)(mA): 32/-32; tpd @ Nom Voltage(Max)(ns): 17.2,6.2,4.8,3.5; Logic: True; Gate Type: OR; Sub-Family: OR Gate; DatasheetVersion: SCES489E; PackageReference: YZP0006ADAD; Supplier 1: Mouser; Supplier Part Number 1: 595-SN74LVC1G332YZPR; Supplier 2: Digi-Key; Supplier Part Number 2: 296-15853-2-ND; Supplier 3: Digi-Key; Supplier Part Number 3: 296-15853-1-ND; Supplier 4: Digi-Key; Supplier Part Number 4: 296-15853-6-ND; Operating Temperature Range(C): -40 to 125,-40 to 85; 3-State Output: No; ComponentLink1Description: Manufacturer URL; ComponentLink1URL: http://www.ti.com/; ComponentLink2Description: Datasheet; ComponentLink2URL: http://www.ti.com/lit/ds/symlink/sn74lvc1g332.pdf
footprint YZP0006ADAD (BGA, 6-Balls, Body 1.39x0.89mm, Pitch 0.5mm)
part A pins: A1 A (in), A2 C (in), C1 B (in), C2 Y (out)
part B pins: B1 GND (power), B2 VCC (power)

## SN74LVC1G373DBVR
designator U?
Single D-Type Latch with 3S Output, DBV0006A, LARGE T&R; Generic Part Number: SN74LVC1G373; Manufacturer: Texas Instruments; PartNumber: SN74LVC1G373DBVR; VCC(Min)(V): 1.65; VCC(Max)(V): 5.5; Output Type: CMOS; Logic: True; ICC @ Nom Voltage(Max)(mA): 0.01; Input Type: CMOS/TTL; Bits(#): 1; F @ Nom Voltage(Max)(Mhz): 150; Rating: Catalog; Technology Family: LVC; Voltage(Nom)(V): 1.8,2.5,3.3,5; Schmitt Trigger: No; Output Drive (IOL/IOH)(Max)(mA): 32/-32; 3-State Output: Yes; tpd @ Nom Voltage(Max)(ns): 16,7.3,5.4,4; DatasheetVersion: SCES528D; PackageReference: DBV0006A; Supplier 1: Mouser; Supplier Part Number 1: 595-SN74LVC1G373DBVR; Supplier 2: Digi-Key; Supplier Part Number 2: 296-18588-2-ND; Supplier 3: Digi-Key; Supplier Part Number 3: 296-18588-1-ND; Supplier 4: Digi-Key; Supplier Part Number 4: 296-18588-6-ND; Operating Temperature Range(C): -40 to 125,-40 to 85; Sub-Family: D-Type Latch; ComponentLink1Description: Manufacturer URL; ComponentLink1URL: http://www.ti.com/; ComponentLink2Description: Datasheet; ComponentLink2URL: http://www.ti.com/lit/ds/symlink/sn74lvc1g373.pdf
footprint DBV0006A_N (SOT23, 6-Leads, Body 3.05x1.75mm, Pitch 0.95mm, IPC Medium Density)
footprint DBV0006A_M (SOT23, 6-Leads, Body 3.05x1.75mm, Pitch 0.95mm, IPC Low Density)
footprint DBV0006A_L (SOT23, 6-Leads, Body 3.05x1.75mm, Pitch 0.95mm, IPC High Density)
pins: 1 LE (in), 2 GND (power), 3 D (in), 4 Q (hiz), 5 VCC (power), 6 ~{OE} (in)

## SN74LVC1G373DCKR
designator U?
Single D-Type Latch with 3S Output, DCK0006A, LARGE T&R; Generic Part Number: SN74LVC1G373; Manufacturer: Texas Instruments; PartNumber: SN74LVC1G373DCKR; VCC(Min)(V): 1.65; VCC(Max)(V): 5.5; Output Type: CMOS; Logic: True; ICC @ Nom Voltage(Max)(mA): 0.01; Input Type: CMOS/TTL; Bits(#): 1; F @ Nom Voltage(Max)(Mhz): 150; Rating: Catalog; Technology Family: LVC; Voltage(Nom)(V): 1.8,2.5,3.3,5; Schmitt Trigger: No; Output Drive (IOL/IOH)(Max)(mA): 32/-32; 3-State Output: Yes; tpd @ Nom Voltage(Max)(ns): 16,7.3,5.4,4; DatasheetVersion: SCES528D; PackageReference: DCK0006A; Supplier 1: Mouser; Supplier Part Number 1: 595-SN74LVC1G373DCKR; Supplier 2: Digi-Key; Supplier Part Number 2: 296-18775-2-ND; Supplier 3: Digi-Key; Supplier Part Number 3: 296-18775-1-ND; Supplier 4: Digi-Key; Supplier Part Number 4: 296-18775-6-ND; Operating Temperature Range(C): -40 to 125,-40 to 85; Sub-Family: D-Type Latch; ComponentLink1Description: Manufacturer URL; ComponentLink1URL: http://www.ti.com/; ComponentLink2Description: Datasheet; ComponentLink2URL: http://www.ti.com/lit/ds/symlink/sn74lvc1g373.pdf
footprint DCK0006A_N (SOT23, 6-Leads, Body 2.15x1.4mm, Pitch 0.65mm, IPC Medium Density)
footprint DCK0006A_M (SOT23, 6-Leads, Body 2.15x1.4mm, Pitch 0.65mm, IPC Low Density)
footprint DCK0006A_L (SOT23, 6-Leads, Body 2.15x1.4mm, Pitch 0.65mm, IPC High Density)
pins: 1 LE (in), 2 GND (power), 3 D (in), 4 Q (hiz), 5 VCC (power), 6 ~{OE} (in)

## SN74LVC1G373YZPR
designator U?
Single D-Type Latch with 3S Output, YZP0006ADAD, LARGE T&R; Generic Part Number: SN74LVC1G373; Manufacturer: Texas Instruments; PartNumber: SN74LVC1G373YZPR; VCC(Min)(V): 1.65; VCC(Max)(V): 5.5; Output Type: CMOS; Logic: True; ICC @ Nom Voltage(Max)(mA): 0.01; Input Type: CMOS/TTL; Bits(#): 1; F @ Nom Voltage(Max)(Mhz): 150; Rating: Catalog; Technology Family: LVC; Voltage(Nom)(V): 1.8,2.5,3.3,5; Schmitt Trigger: No; Output Drive (IOL/IOH)(Max)(mA): 32/-32; 3-State Output: Yes; tpd @ Nom Voltage(Max)(ns): 16,7.3,5.4,4; DatasheetVersion: SCES528D; PackageReference: YZP0006ADAD; Supplier 1: Mouser; Supplier Part Number 1: 595-SN74LVC1G373YZPR; Supplier 2: Digi-Key; Supplier Part Number 2: 296-17100-2-ND; Supplier 3: Digi-Key; Supplier Part Number 3: 296-17100-1-ND; Operating Temperature Range(C): -40 to 125,-40 to 85; Sub-Family: D-Type Latch; ComponentLink1Description: Manufacturer URL; ComponentLink1URL: http://www.ti.com/; ComponentLink2Description: Datasheet; ComponentLink2URL: http://www.ti.com/lit/ds/symlink/sn74lvc1g373.pdf
footprint YZP0006ADAD (BGA, 6-Balls, Body 1.39x0.89mm, Pitch 0.5mm)
pins: A1 LE (in), A2 ~{OE} (in), B1 GND (power), B2 VCC (power), C1 D (in), C2 Q (hiz)

## SN74LVC1G374DBVR
designator U?
Single D-Type Flip-Flop with 3-State Output, DBV0006A, LARGE T&R; Generic Part Number: SN74LVC1G374; Manufacturer: Texas Instruments; PartNumber: SN74LVC1G374DBVR; VCC(Min)(V): 1.65; VCC(Max)(V): 5.5; Output Type: CMOS; ICC @ Nom Voltage(Max)(mA): 0.01; Input Type: CMOS/TTL; Bits(#): 1; F @ Nom Voltage(Max)(Mhz): 150; Rating: Catalog; Technology Family: LVC; Voltage(Nom)(V): 1.8,2.5,3.3,5; Schmitt Trigger: No; Output Drive (IOL/IOH)(Max)(mA): 32/-32; 3-State Output: Yes; tpd @ Nom Voltage(Max)(ns): 18.3,10.2,7,5; Logic: True; DatasheetVersion: SCES520C; PackageReference: DBV0006A; Supplier 1: Mouser; Supplier Part Number 1: 595-SN74LVC1G374DBVR; Supplier 2: Digi-Key; Supplier Part Number 2: 296-18776-2-ND; Supplier 3: Digi-Key; Supplier Part Number 3: 296-18776-1-ND; Supplier 4: Digi-Key; Supplier Part Number 4: 296-18776-6-ND; Operating Temperature Range(C): -40 to 125,-40 to 85; Sub-Family: D-Type Flip-Flop; ComponentLink1Description: Manufacturer URL; ComponentLink1URL: http://www.ti.com/; ComponentLink2Description: Datasheet; ComponentLink2URL: http://www.ti.com/lit/ds/symlink/sn74lvc1g374.pdf
footprint DBV0006A_N (SOT23, 6-Leads, Body 3.05x1.75mm, Pitch 0.95mm, IPC Medium Density)
footprint DBV0006A_M (SOT23, 6-Leads, Body 3.05x1.75mm, Pitch 0.95mm, IPC Low Density)
footprint DBV0006A_L (SOT23, 6-Leads, Body 3.05x1.75mm, Pitch 0.95mm, IPC High Density)
pins: 1 CLK (in), 2 GND (power), 3 D (in), 4 Q (hiz), 5 VCC (power), 6 ~{OE} (in)

## SN74LVC1G374DCKR
designator U?
Single D-Type Flip-Flop with 3-State Output, DCK0006A, LARGE T&R; Generic Part Number: SN74LVC1G374; Manufacturer: Texas Instruments; PartNumber: SN74LVC1G374DCKR; VCC(Min)(V): 1.65; VCC(Max)(V): 5.5; Output Type: CMOS; ICC @ Nom Voltage(Max)(mA): 0.01; Input Type: CMOS/TTL; Bits(#): 1; F @ Nom Voltage(Max)(Mhz): 150; Rating: Catalog; Technology Family: LVC; Voltage(Nom)(V): 1.8,2.5,3.3,5; Schmitt Trigger: No; Output Drive (IOL/IOH)(Max)(mA): 32/-32; 3-State Output: Yes; tpd @ Nom Voltage(Max)(ns): 18.3,10.2,7,5; Logic: True; DatasheetVersion: SCES520C; PackageReference: DCK0006A; Supplier 1: Mouser; Supplier Part Number 1: 595-SN74LVC1G374DCKR; Supplier 2: Digi-Key; Supplier Part Number 2: 296-18777-2-ND; Supplier 3: Digi-Key; Supplier Part Number 3: 296-18777-1-ND; Supplier 4: Digi-Key; Supplier Part Number 4: 296-18777-6-ND; Operating Temperature Range(C): -40 to 125,-40 to 85; Sub-Family: D-Type Flip-Flop; ComponentLink1Description: Manufacturer URL; ComponentLink1URL: http://www.ti.com/; ComponentLink2Description: Datasheet; ComponentLink2URL: http://www.ti.com/lit/ds/symlink/sn74lvc1g374.pdf
footprint DCK0006A_N (SOT23, 6-Leads, Body 2.15x1.4mm, Pitch 0.65mm, IPC Medium Density)
footprint DCK0006A_M (SOT23, 6-Leads, Body 2.15x1.4mm, Pitch 0.65mm, IPC Low Density)
footprint DCK0006A_L (SOT23, 6-Leads, Body 2.15x1.4mm, Pitch 0.65mm, IPC High Density)
pins: 1 CLK (in), 2 GND (power), 3 D (in), 4 Q (hiz), 5 VCC (power), 6 ~{OE} (in)

## SN74LVC1G374YZPR
designator U?
Single D-Type Flip-Flop with 3-State Output, YZP0006ADAD, LARGE T&R; Generic Part Number: SN74LVC1G374; Manufacturer: Texas Instruments; PartNumber: SN74LVC1G374YZPR; VCC(Min)(V): 1.65; VCC(Max)(V): 5.5; Output Type: CMOS; ICC @ Nom Voltage(Max)(mA): 0.01; Input Type: CMOS/TTL; Bits(#): 1; F @ Nom Voltage(Max)(Mhz): 150; Rating: Catalog; Technology Family: LVC; Voltage(Nom)(V): 1.8,2.5,3.3,5; Schmitt Trigger: No; Output Drive (IOL/IOH)(Max)(mA): 32/-32; 3-State Output: Yes; tpd @ Nom Voltage(Max)(ns): 18.3,10.2,7,5; Logic: True; DatasheetVersion: SCES520C; PackageReference: YZP0006ADAD; Supplier 1: Mouser; Supplier Part Number 1: 595-SN74LVC1G374YZPR; Supplier 2: Digi-Key; Supplier Part Number 2: 296-18778-2-ND; Supplier 3: Digi-Key; Supplier Part Number 3: 296-18778-1-ND; Operating Temperature Range(C): -40 to 125,-40 to 85; Sub-Family: D-Type Flip-Flop; ComponentLink1Description: Manufacturer URL; ComponentLink1URL: http://www.ti.com/; ComponentLink2Description: Datasheet; ComponentLink2URL: http://www.ti.com/lit/ds/symlink/sn74lvc1g374.pdf
footprint YZP0006ADAD (BGA, 6-Balls, Body 1.39x0.89mm, Pitch 0.5mm)
pins: A1 CLK (in), A2 ~{OE} (in), B1 GND (power), B2 VCC (power), C1 D (in), C2 Q (hiz)

## SN74LVC1G386DBVR
designator U?
SINGLE 3-INPUT POSITIVE-XOR GATE, DBV0006A, LARGE T&R; Generic Part Number: SN74LVC1G386; Manufacturer: Texas Instruments; PartNumber: SN74LVC1G386DBVR; VCC(Min)(V): 1.65; VCC(Max)(V): 5.5; Output Type: CMOS; ICC @ Nom Voltage(Max)(mA): 0.01; Input Type: CMOS/TTL; Bits(#): 1; F @ Nom Voltage(Max)(Mhz): 150; Rating: Catalog; Technology Family: LVC; Voltage(Nom)(V): 1.8,2.5,3.3,5; Schmitt Trigger: No; Output Drive (IOL/IOH)(Max)(mA): 32/-32; tpd @ Nom Voltage(Max)(ns): 12,5.5,5,4; Logic: True; Gate Type: XOR; DatasheetVersion: SCES439E; PackageReference: DBV0006A; Supplier 1: Mouser; Supplier Part Number 1: 595-SN74LVC1G386DBVR; Supplier 2: Digi-Key; Supplier Part Number 2: 296-18779-2-ND; Supplier 3: Digi-Key; Supplier Part Number 3: 296-18779-1-ND; Supplier 4: Digi-Key; Supplier Part Number 4: 296-18779-6-ND; Operating Temperature Range(C): -40 to 125,-40 to 85; Sub-Family: XOR Gate; 3-State Output: No; ComponentLink1Description: Manufacturer URL; ComponentLink1URL: http://www.ti.com/; ComponentLink2Description: Datasheet; ComponentLink2URL: http://www.ti.com/lit/ds/symlink/sn74lvc1g386.pdf
footprint DBV0006A_N (SOT23, 6-Leads, Body 3.05x1.75mm, Pitch 0.95mm, IPC Medium Density)
footprint DBV0006A_M (SOT23, 6-Leads, Body 3.05x1.75mm, Pitch 0.95mm, IPC Low Density)
footprint DBV0006A_L (SOT23, 6-Leads, Body 3.05x1.75mm, Pitch 0.95mm, IPC High Density)
part A pins: 1 A (in), 3 B (in), 4 Y (out), 6 C (in)
part B pins: 2 GND (power), 5 VCC (power)

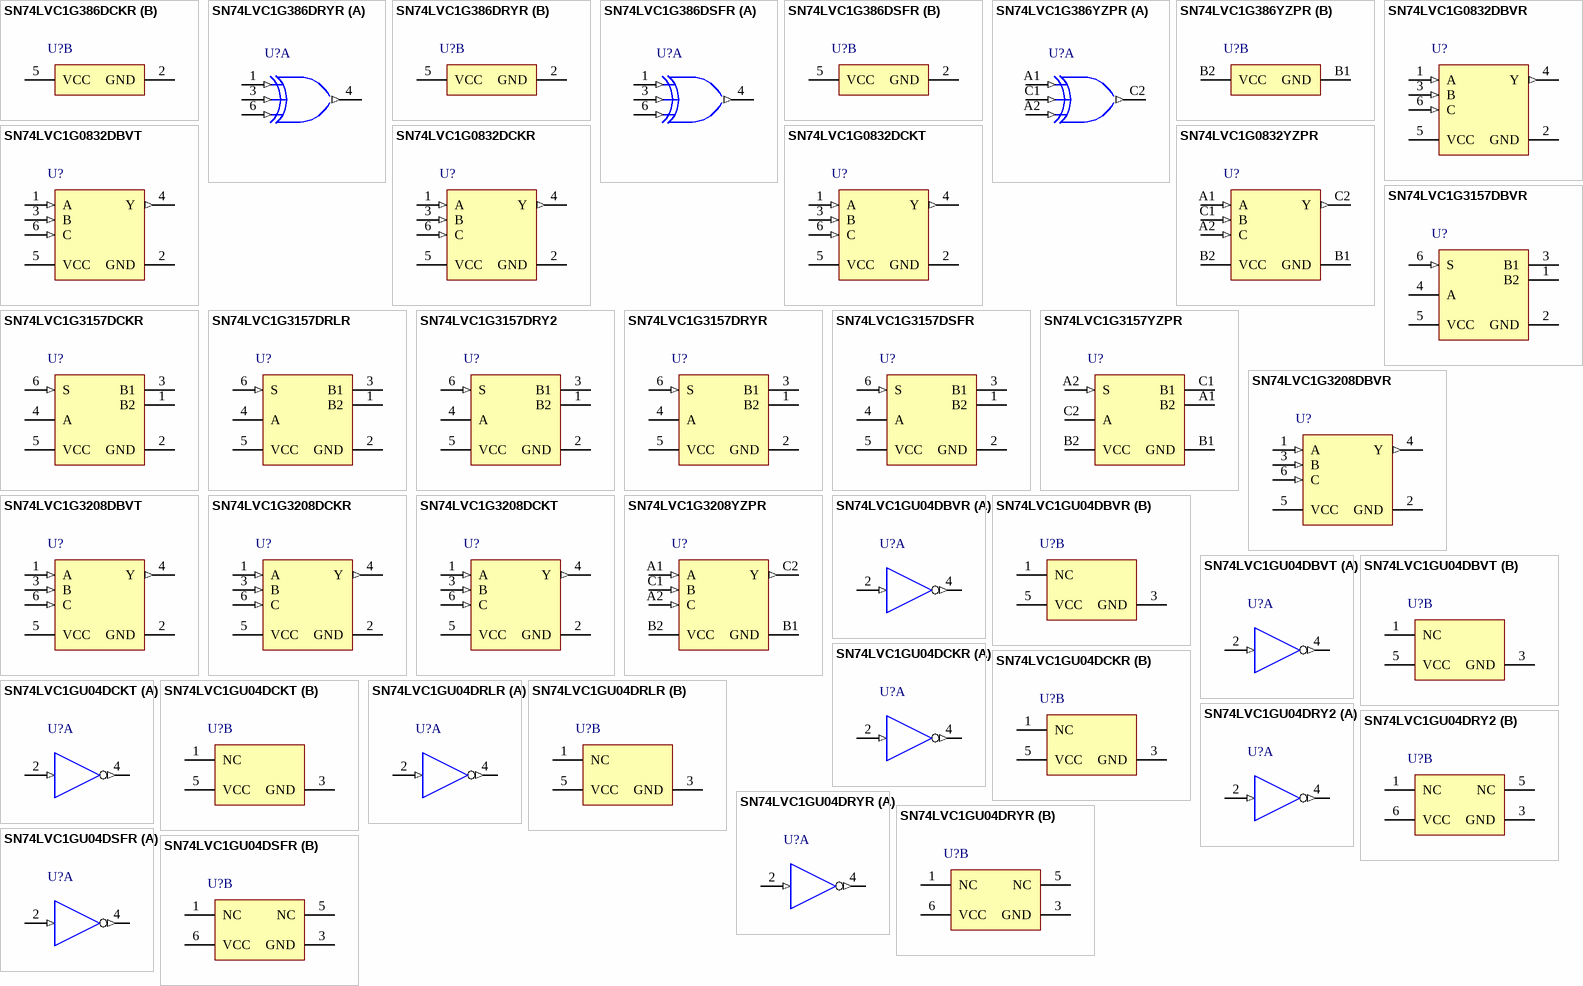
[diagram p46: symbols SN74LVC1G386DCKR to SN74LVC1GU04DSFR]

## SN74LVC1G386DCKR
designator U?
SINGLE 3-INPUT POSITIVE-XOR GATE, DCK0006A, LARGE T&R; Generic Part Number: SN74LVC1G386; Manufacturer: Texas Instruments; PartNumber: SN74LVC1G386DCKR; VCC(Min)(V): 1.65; VCC(Max)(V): 5.5; Output Type: CMOS; ICC @ Nom Voltage(Max)(mA): 0.01; Input Type: CMOS/TTL; Bits(#): 1; F @ Nom Voltage(Max)(Mhz): 150; Rating: Catalog; Technology Family: LVC; Voltage(Nom)(V): 1.8,2.5,3.3,5; Schmitt Trigger: No; Output Drive (IOL/IOH)(Max)(mA): 32/-32; tpd @ Nom Voltage(Max)(ns): 12,5.5,5,4; Logic: True; Gate Type: XOR; DatasheetVersion: SCES439E; PackageReference: DCK0006A; Supplier 1: Mouser; Supplier Part Number 1: 595-SN74LVC1G386DCKR; Supplier 2: Digi-Key; Supplier Part Number 2: 296-18780-2-ND; Supplier 3: Digi-Key; Supplier Part Number 3: 296-18780-1-ND; Supplier 4: Digi-Key; Supplier Part Number 4: 296-18780-6-ND; Operating Temperature Range(C): -40 to 125,-40 to 85; Sub-Family: XOR Gate; 3-State Output: No; ComponentLink1Description: Manufacturer URL; ComponentLink1URL: http://www.ti.com/; ComponentLink2Description: Datasheet; ComponentLink2URL: http://www.ti.com/lit/ds/symlink/sn74lvc1g386.pdf
footprint DCK0006A_N (SOT23, 6-Leads, Body 2.15x1.4mm, Pitch 0.65mm, IPC Medium Density)
footprint DCK0006A_M (SOT23, 6-Leads, Body 2.15x1.4mm, Pitch 0.65mm, IPC Low Density)
footprint DCK0006A_L (SOT23, 6-Leads, Body 2.15x1.4mm, Pitch 0.65mm, IPC High Density)
part A pins: 1 A (in), 3 B (in), 4 Y (out), 6 C (in)
part B pins: 2 GND (power), 5 VCC (power)

## SN74LVC1G386DRYR
designator U?
SINGLE 3-INPUT POSITIVE-XOR GATE, DRY0006A, LARGE T&R; Generic Part Number: SN74LVC1G386; Manufacturer: Texas Instruments; PartNumber: SN74LVC1G386DRYR; VCC(Min)(V): 1.65; VCC(Max)(V): 5.5; Output Type: CMOS; ICC @ Nom Voltage(Max)(mA): 0.01; Input Type: CMOS/TTL; Bits(#): 1; F @ Nom Voltage(Max)(Mhz): 150; Rating: Catalog; Technology Family: LVC; Voltage(Nom)(V): 1.8,2.5,3.3,5; Schmitt Trigger: No; Output Drive (IOL/IOH)(Max)(mA): 32/-32; tpd @ Nom Voltage(Max)(ns): 12,5.5,5,4; Logic: True; Gate Type: XOR; DatasheetVersion: SCES439E; PackageReference: DRY0006A; Supplier 1: Mouser; Supplier Part Number 1: 595-SN74LVC1G386DRYR; Supplier 2: Digi-Key; Supplier Part Number 2: 296-30126-2-ND; Supplier 3: Digi-Key; Supplier Part Number 3: 296-30126-1-ND; Supplier 4: Digi-Key; Supplier Part Number 4: 296-30126-6-ND; Operating Temperature Range(C): -40 to 125,-40 to 85; Sub-Family: XOR Gate; 3-State Output: No; ComponentLink1Description: Manufacturer URL; ComponentLink1URL: http://www.ti.com/; ComponentLink2Description: Datasheet; ComponentLink2URL: http://www.ti.com/lit/ds/symlink/sn74lvc1g386.pdf
footprint DRY0006A_V (SON, 6-Leads, Body 1.45x1mm, Pitch 0.5mm)
part A pins: 1 A (in), 3 B (in), 4 Y (out), 6 C (in)
part B pins: 2 GND (power), 5 VCC (power)